# Altium integrated library Diodes SMD - General Purpose.IntLib: 10 symbols
Pins are listed as number, name and electrical type; pins without a type are passive.

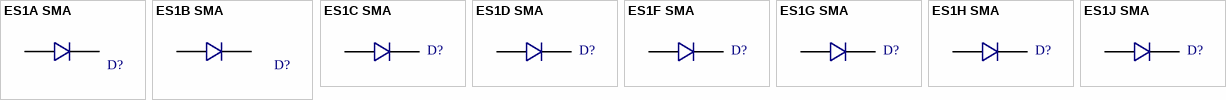
[diagram p0: symbols ES1A SMA to ES1J SMA]

## ES1A SMA
designator D?, comment ES1A  (value not drawn)
Diode Standard 50V 1A Surface Mount SMA (DO-214AC); Manufacturer 1: ON Semiconductor; Manufacturer 1 PN: ES1A; Voltage: 50V; Current: 1A; ComponentLink1Description: Datasheet; ComponentLink1URL: https://www.fairchildsemi.com/datasheets/ES/ES1A.pdf
footprint ES1A SMA Package (Diode Standard 50V 1A Surface Mount SMA (DO-214AC))
pins: A, K

## ES1B SMA
designator D?, comment ES1B  (value not drawn)
Diode Standard 100V 1A Surface Mount SMA (DO-214AC); Manufacturer 1: ON Semiconductor; Manufacturer 1 PN: ES1B; Voltage: 100V; Current: 1A; ComponentLink1Description: Datasheet; ComponentLink1URL: https://www.fairchildsemi.com/datasheets/ES/ES1A.pdf
footprint ES1B SMA Package (Diode Standard 100V 1A Surface Mount SMA (DO-214AC))
pins: A, K

## ES1C SMA
designator D?, comment ES1C  (value not drawn)
Diode Standard 150V 1A Surface Mount SMA (DO-214AC); Manufacturer 1: ON Semiconductor; Manufacturer 1 PN: ES1C; Voltage: 150V; Current: 1A; ComponentLink1Description: Datasheet; ComponentLink1URL: https://www.fairchildsemi.com/datasheets/ES/ES1A.pdf
footprint ES1C SMA Package (Diode Standard 150V 1A Surface Mount SMA (DO-214AC))
pins: A, K

## ES1D SMA
designator D?, comment ES1D  (value not drawn)
Diode Standard 200V 1A Surface Mount SMA (DO-214AC); Manufacturer 1: ON Semiconductor; Manufacturer 1 PN: ES1D; Voltage: 200V; Current: 1A; ComponentLink1Description: Datasheet; ComponentLink1URL: https://www.fairchildsemi.com/datasheets/ES/ES1A.pdf
footprint ES1D SMA Package (Diode Standard 200V 1A Surface Mount SMA (DO-214AC))
pins: A, K

## ES1F SMA
designator D?, comment ES1F  (value not drawn)
Diode Standard 300V 1A Surface Mount SMA (DO-214AC); Manufacturer 1: ON Semiconductor; Manufacturer 1 PN: ES1F; ComponentLink1Description: Datasheet; ComponentLink1URL: https://www.fairchildsemi.com/datasheets/ES/ES1F.pdf; Voltage: 300V; Current: 1A
footprint ES1F SMA Package (Diode Standard 300V 1A Surface Mount SMA (DO-214AC))
pins: A, K

## ES1G SMA
designator D?, comment ES1G  (value not drawn)
Diode Standard 400V 1A Surface Mount SMA (DO-214AC); Manufacturer 1: ON Semiconductor; Manufacturer 1 PN: ES1G; ComponentLink1Description: Datasheet; ComponentLink1URL: https://www.fairchildsemi.com/datasheets/ES/ES1F.pdf; Voltage: 400V; Current: 1A
footprint ES1G SMA Package (Diode Standard 400V 1A Surface Mount SMA (DO-214AC))
pins: A, K

## ES1H SMA
designator D?, comment ES1H  (value not drawn)
Diode Standard 500V 1A Surface Mount SMA (DO-214AC); Manufacturer 1: ON Semiconductor; Manufacturer 1 PN: ES1H; ComponentLink1Description: Datasheet; ComponentLink1URL: https://www.fairchildsemi.com/datasheets/ES/ES1F.pdf; Voltage: 500V; Current: 1A
footprint ES1H SMA Package (Diode Standard 500V 1A Surface Mount SMA (DO-214AC))
pins: A, K

## ES1J SMA
designator D?, comment ES1J  (value not drawn)
Diode Standard 600V 1A Surface Mount SMA (DO-214AC); Manufacturer 1: ON Semiconductor; Manufacturer 1 PN: ES1J; ComponentLink1Description: Datasheet; ComponentLink1URL: https://www.fairchildsemi.com/datasheets/ES/ES1F.pdf; Voltage: 600V; Current: 1A
footprint ES1J SMA Package (Diode Standard 600V 1A Surface Mount SMA (DO-214AC))
pins: A, K


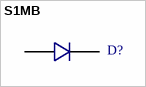
[diagram p1: symbol S1MB]

## S1MB
designator D?, comment S1MB - SMB Package  (value not drawn)
Diode Standard 1000V 1A Surface Mount SMB; Manufacturer 1: Diodes Incorporated; Manufacturer 1 PN: S1MB-13-F; ComponentLink1Description: Datasheet; ComponentLink1URL: https://www.diodes.com/assets/Datasheets/ds16003.pdf; Digikey PN: S1M-FDICT-ND; Current: 1A; Voltage: 1000V
footprint S1MB SMB Package (Diode Standard 1000V 1A Surface Mount SMB)
pins: A, K


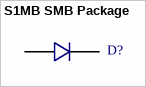
[diagram p2: symbol S1MB SMB Package]

## S1MB SMB Package
designator D?, comment S1MB  (value not drawn)
Diode Standard 1000V 1A Surface Mount SMB; Manufacturer 1: Diodes Incorporated; Manufacturer 1 PN: S1MB-13-F; ComponentLink1Description: Datasheet; ComponentLink1URL: https://www.diodes.com/assets/Datasheets/ds16003.pdf
footprint S1MB SMB Package (Diode Standard 1000V 1A Surface Mount SMB)
pins: A, K